# Altium footprint library PCB11.PcbLib: 17 footprints (part 1 of 2)
Each footprint in its own frame and in the unit in brackets; x right, y up, seen from the top. Pads: shape width x height; smd on the part's side, far side on the other; paste and mask are expansions set on the pad; w line width, h text height; cw(c..) or ccw(c..) is an arc to the next point about the centre after c.
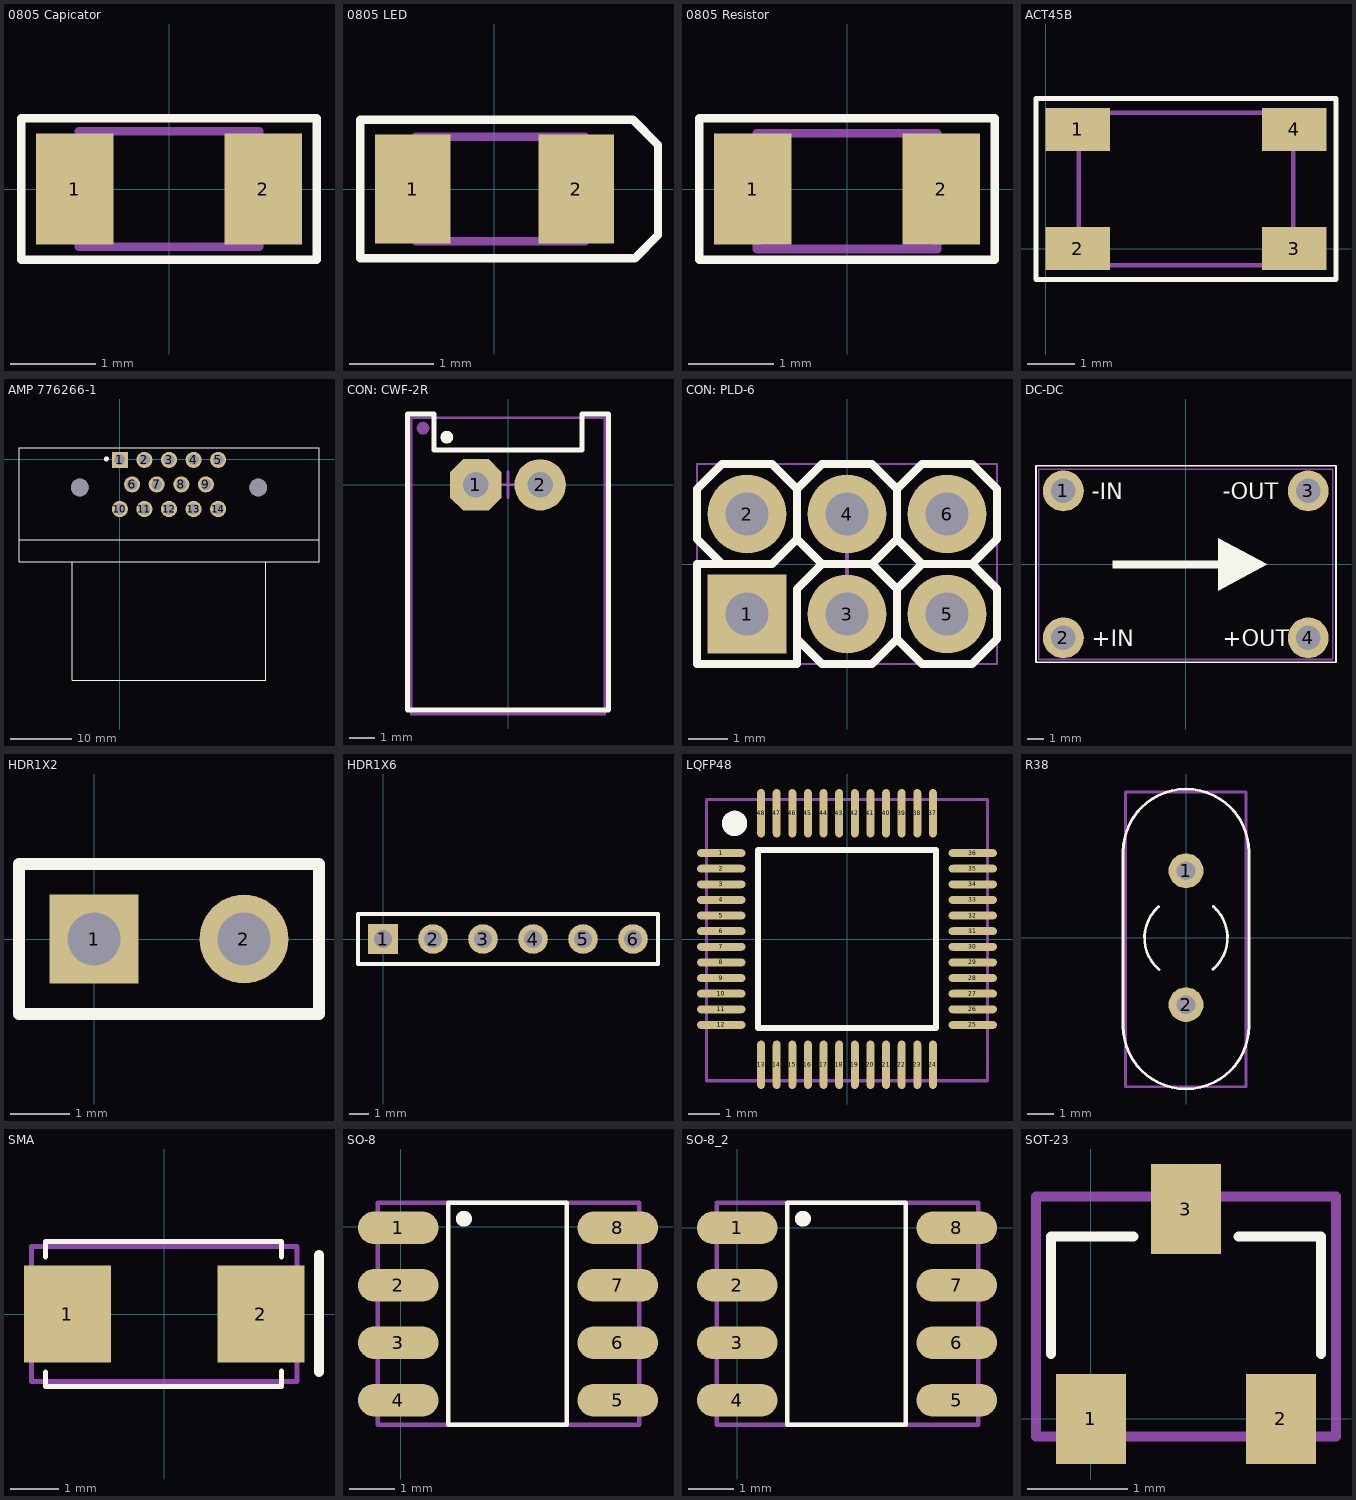
[diagram p0: the footprints below, top view; thin cyan lines are the x and y axes]

## 0805 Capicator [mm]
pads (2):
  rect 0.9x1.3 smd: 1(-1.1,0) 2(1.1,0)
Top Overlay:
  lines w0.1: -1.725,-0.825 -1.725,0.825 1.725,0.825 1.725,-0.825 -1.725,-0.825
Mechanical 13:
  lines w0.1: -1.05,-0.675 -1.05,0.675 1.05,0.675 1.05,-0.675 -1.05,-0.675
3D body: height 0.75, standoff 0, extent -1.05,-0.675 1.05,0.675

## 0805 LED [mm]
pads (2):
  rect 0.9x1.3 smd: 1(-0.975,0) 2(0.975,0)
Top Overlay:
  lines w0.1: -1.6,-0.825 -1.6,0.825 1.65,0.825 1.95,0.525 1.95,-0.55 1.675,-0.825 -1.6,-0.825
Mechanical 13:
  lines w0.1: -0.935,-0.625 1.085,-0.625 1.085,0.625 -0.935,0.625 -0.935,-0.625
3D body "LED0805.step": height 1.1, standoff 0, extent -0.935,-0.625 1.085,0.625

## 0805 Resistor [mm]
pads (2):
  rect 0.9x1.3 smd: 1(-1.1,0) 2(1.1,0)
Top Overlay:
  lines w0.1: -1.725,-0.825 -1.725,0.825 1.725,0.825 1.725,-0.825 -1.725,-0.825
Mechanical 13:
  lines w0.1: -1.05,-0.7 1.05,-0.7 1.05,0.65 -1.05,0.65 -1.05,-0.7
3D body: height 0.6, standoff 0, extent -1.05,-0.7 1.05,0.65

## ACT45B [mm]
pads (4):
  rect 1.35x0.9 smd: 1(0.675,2.5) 2(0.675,0) 3(5.225,0) 4(5.225,2.5)
Top Overlay:
  lines w0.1: -0.2,-0.65 5.7,-0.65 6.1,-0.65 6.1,2.8 6.1,3.15 -0.2,3.15 -0.2,-0.65
Mechanical 13:
  lines w0.1: 0.7,-0.35 5.2,-0.35 5.2,2.85 0.7,2.85 0.7,-0.35
3D body "ACT45B_GERMANY.STEP": height 3, standoff 0, extent 0.7,-0.35 5.2,2.85

## AMP 776266-1 [mm]
pads (16):
  rect 2.625x2.625 hole 1.75: 1(-0.019,-0.061)
  round 2.625 hole 1.75: 2(3.981,-0.061) 3(7.981,-0.061) 4(11.981,-0.061) 5(15.981,-0.061) 6(1.981,-4.061) 7(5.981,-4.061) 8(9.981,-4.061) 9(13.981,-4.061) 10(-0.019,-8.061) 11(3.981,-8.061) 12(7.981,-8.061) 13(11.981,-8.061) 14(15.981,-8.061)
  round 2.85 hole 2.85 unplated: None(-6.519,-4.561) None(22.481,-4.561)
Top Overlay:
  circle w0.4: c-2.2,0.1 r0.2
  lines w0.1: -16.419,-13.061 32.381,-13.061 ; -16.419,-13.061 -16.419,1.9 32.381,1.9 32.381,-13.061 ; -16.419,-13.061 -16.419,-16.611 -7.719,-16.611 ; -7.719,-16.611 23.681,-16.611 ; -7.719,-16.611 -7.719,-35.911 23.681,-35.911 23.681,-16.611 ; 23.681,-16.611 32.381,-16.611 32.381,-13.061
3D body "AMP 776266-1.stp": height 29.05, standoff -3.05, extent -16.4,-35.9 32.4,1.9

## CON: CWF-2R [mm]
height 7.7
pads (4):
  oct 2x2 hole 1: 1(-1.25,0)
  round 2 hole 1: 2(1.25,0)
  round 0.5 on Mech1: ""(-3.3,2.2)
  round 0.5 on Top Overlay: ""(-2.375,1.85)
Top Overlay:
  lines w0.2: -3.9,-8.75 -3.9,2.75 -2.875,2.75 -2.875,1.35 2.875,1.35 2.875,2.75 3.9,2.75 3.9,-8.75 -3.9,-8.75
Mechanical 1:
  lines w0.1: -3.75,-8.9 3.75,-8.9 3.75,2.6 -3.75,2.6 -3.75,-8.9
Mechanical 15:
  lines w0.1: -0.5,0 0.5,0 ; 0,-0.5 0,0.5 ; -3.9,-8.75 3.9,-8.75 3.9,2.75 2.875,2.75 2.875,1.35 -2.875,1.35 -2.875,2.75 -3.9,2.75 -3.9,-8.75
3D body "User Library-DS1069-2 CWF-2R.STEP": height 5.75, standoff -3.5, extent -3.75,-8.9 3.75,2.6

## CON: PLD-6 [mm]
height 10
pads (6):
  rect 2x2 hole 1.1: 1(-2.54,-1.27)
  round 2 hole 1.1: 2(-2.54,1.27) 3(0,-1.27) 4(0,1.27) 5(2.54,-1.27) 6(2.54,1.27)
Top Overlay:
  lines w0.2: -3.175,0 -3.81,0.635 -3.81,1.905 -3.175,2.54 ; -1.27,-1.905 -0.635,-2.54 0.635,-2.54 1.27,-1.905 ; -3.175,2.54 -1.905,2.54 ; -3.175,2.54 -1.905,2.54 ; -3.175,2.54 -1.905,2.54 ; -1.905,2.54 -1.27,1.905 ; -1.27,0.635 -0.635,0 ; -1.27,0.635 -1.905,0 -3.81,0 -3.81,-2.54 -1.27,-2.54 -1.27,-0.635 -0.635,0 ; -1.27,0.635 -1.27,1.905 ; -1.27,1.905 -0.635,2.54 ; -0.635,0 0.635,0 ; -0.635,2.54 0.635,2.54 ; -0.635,2.54 0.635,2.54 ; 0.635,0 1.27,-0.635 ; 0.635,0 1.27,0.635 ; 0.635,2.54 1.27,1.905 ; 1.27,-1.905 1.27,-0.635 ; 1.27,-1.905 1.905,-2.54 3.175,-2.54 3.81,-1.905 3.81,-0.635 3.175,0 ; 1.27,-0.635 1.905,0 ; 1.27,0.635 1.905,0 ; 1.27,0.635 1.27,1.905 ; 1.27,1.905 1.905,2.54 ; 1.905,0 3.175,0 ; 1.905,2.54 3.175,2.54 ; 1.905,2.54 3.175,2.54 ; 3.175,0 3.81,0.635 3.81,1.905 3.175,2.54
Mechanical 1:
  lines w0.1: -3.175,0 -3.81,0.635 -3.81,1.905 -3.175,2.54 -1.905,2.54 -1.27,1.905 -0.635,2.54 0.635,2.54 1.27,1.905 ; -1.27,-1.905 -0.635,-2.54 0.635,-2.54 1.27,-1.905 ; -0.635,0 -1.27,-0.635 -1.27,-2.54 -3.81,-2.54 -3.81,0 -1.905,0 -1.27,0.635 -0.635,0 ; -0.635,0 0.635,0 ; 0.635,0 1.27,-0.635 ; 0.635,0 1.27,0.635 ; 1.27,-1.905 1.27,-0.635 ; 1.27,-1.905 1.905,-2.54 3.175,-2.54 3.81,-1.905 3.81,-0.635 3.175,0 ; 1.27,-0.635 1.905,0 ; 1.27,0.635 1.27,1.905 ; 1.27,0.635 1.905,0 ; 1.27,1.905 1.905,2.54 3.175,2.54 3.81,1.905 3.81,0.635 3.175,0 ; 1.905,0 3.175,0
Mechanical 15:
  lines w0.05: -3.81,-2.54 -3.81,2.54 3.81,2.54 3.81,-2.54 -3.81,-2.54
  lines w0.1: -0.5,0 0.5,0 ; 0,-0.5 0,0.5
3D body "PLD-6.STEP": height 8.54, standoff -3, extent -3.81,-2.54 3.81,2.54

## DC-DC [mm]
pads (4):
  round 2.5 / inner round 0 / far side round 2.5 hole 1.5: 1(-7.5,4.5) 2(-7.5,-4.5) 3(7.5,4.5) 4(7.5,-4.5)
Top Overlay:
  rectangle: -4.5,-0.25 2,0.25
  region: 2,-1.6 5,0 2,1.6
  lines w0.1: -9.175,-6 9.2,-6 9.2,6.05 -9.175,6.05 -9.175,0.925 -9.175,-6
  text "-OUT" at 2.25,4 h1
  text "+OUT" at 2.25,-5 h1
  text "+IN" at -5.75,-5 h1
  text "-IN" at -5.75,4 h1
Mechanical 13:
  lines w0.1: -9,-5.825 -9,5.825 9,5.825 9,-5.825 -9,-5.825
3D body "dsn-mini-360.step": height 7.3, standoff -4.73, extent -9,-5.825 9,5.825

## HDR1X2 [mm] "Connector; Header; 2 Position"
pads (2):
  rect 1.5x1.5 hole 0.9: 1(0,0)
  round 1.5 hole 0.9: 2(2.54,0)
Top Overlay:
  lines w0.2: -1.27,-1.27 3.81,-1.27 3.81,1.27 -1.27,1.27 -1.27,-1.27

## HDR1X6 [mm] "Connector; Header; 6 Position"
pads (6):
  rect 1.5x1.5 hole 0.9: 1(0,0)
  round 1.5 hole 0.9: 2(2.54,0) 3(5.08,0) 4(7.62,0) 5(10.16,0) 6(12.7,0)
Top Overlay:
  lines w0.2: -1.27,-1.27 -1.27,1.27 13.97,1.27 13.97,-1.27 -1.27,-1.27

## LQFP48 [mm]
pads (48):
  oval 1.55x0.254 smd mask+0.04: 1(-4.025,2.75) 2(-4.025,2.25) 3(-4.025,1.75) 4(-4.025,1.25) 5(-4.025,0.75) 6(-4.025,0.25) 7(-4.025,-0.25) 8(-4.025,-0.75) 9(-4.025,-1.25) 10(-4.025,-1.75) 11(-4.025,-2.25) 12(-4.025,-2.75) 25(4.025,-2.75) 26(4.025,-2.25) 27(4.025,-1.75) 28(4.025,-1.25) 29(4.025,-0.75) 30(4.025,-0.25) 31(4.025,0.25) 32(4.025,0.75) 33(4.025,1.25) 34(4.025,1.75) 35(4.025,2.25) 36(4.025,2.75)
  oval 0.254x1.55 smd mask+0.04: 13(-2.75,-4.025) 14(-2.25,-4.025) 15(-1.75,-4.025) 16(-1.25,-4.025) 17(-0.75,-4.025) 18(-0.25,-4.025) 19(0.25,-4.025) 20(0.75,-4.025) 21(1.25,-4.025) 22(1.75,-4.025) 23(2.25,-4.025) 24(2.75,-4.025) 37(2.75,4.025) 38(2.25,4.025) 39(1.75,4.025) 40(1.25,4.025) 41(0.75,4.025) 42(0.25,4.025) 43(-0.25,4.025) 44(-0.75,4.025) 45(-1.25,4.025) 46(-1.75,4.025) 47(-2.25,4.025) 48(-2.75,4.025)
Top Overlay:
  circle w0.41: c-3.6,3.7 r0.2
  lines w0.2: -2.85,-2.85 -2.85,2.85 2.85,2.85 2.85,-2.85 -2.85,-2.85
Mechanical 13:
  lines w0.1: -4.5,-4.536 -4.5,4.464 4.5,4.464 4.5,-4.536 -4.5,-4.536
3D body "User Library-Quad50M48.step": height 1.56, standoff 0, extent -4.5,-4.536 4.5,4.464

## R38 [mm] "Crystal"
pads (2):
  round 1.3 hole 0.7: 1(0,2.5) 2(0,-2.5)
Top Overlay:
  lines w0.1: -1.022,1.155 ccw(c0,-0.01) -1.006,-1.189 ; 1.006,-1.179 ccw(c0,0) 1.022,1.165 ; -2.35,-3.3 ccw(c0,-3.3) 2.35,-3.3 2.35,3.2 ccw(c0,3.2) -2.35,3.2 -2.35,-3.3
Mechanical 13:
  lines w0.1: -2.258,-5.561 2.242,-5.561 2.242,5.439 -2.258,5.439 -2.258,-5.561
3D body "Cristal 16MHz.STEP": height 4, standoff -1.5, extent -2.258,-5.561 2.242,5.439

## SMA [mm]
pads (2):
  rect 1.8x2 smd: 1(-2,0) 2(2,0)
Top Overlay:
  lines w0.1: -2.45,-1.2 -2.45,-1.5 2.425,-1.5 2.425,-1.175 ; -2.45,1.175 -2.45,1.5 2.425,1.5 2.425,1.175
  lines w0.2: 3.2,-1.2 3.2,1.225
Mechanical 13:
  lines w0.1: -2.743,-1.397 2.743,-1.397 2.743,1.397 -2.743,1.397 -2.743,-1.397
3D body "SMA Diode.step": height 2.29, standoff 0.01, extent -2.743,-1.397 2.743,1.397

## SO-8 [mm]
pads (8):
  oval 1.78x0.72 smd: 1(-0.059,-0.02) 2(-0.059,-1.29) 3(-0.059,-2.56) 4(-0.059,-3.83) 5(4.791,-3.83) 6(4.791,-2.56) 7(4.791,-1.29) 8(4.791,-0.02)
Top Overlay:
  circle w0.25: c1.391,0.18 r0.05
  lines w0.1: 1.041,-4.37 3.666,-4.37 3.666,0.53 1.041,0.53 1.041,-4.37
Mechanical 13:
  lines w0.1: -0.509,-4.37 5.266,-4.37 5.266,0.53 -0.509,0.53 -0.509,-4.37
3D body: height 1.45, standoff 0, extent -0.511,-4.37 5.268,0.532

## SO-8_2 [mm]
pads (8):
  oval 1.78x0.72 smd: 1(0,0) 2(0,-1.27) 3(0,-2.54) 4(0,-3.81) 5(4.85,-3.81) 6(4.85,-2.54) 7(4.85,-1.27) 8(4.85,0)
Top Overlay:
  circle w0.25: c1.45,0.2 r0.05
  lines w0.1: 1.1,-4.35 3.725,-4.35 3.725,0.55 1.1,0.55 1.1,-4.35
Mechanical 13:
  lines w0.1: -0.45,-4.35 5.325,-4.35 5.325,0.55 -0.45,0.55 -0.45,-4.35
3D body: height 1.45, standoff 0, extent -0.452,-4.35 5.327,0.552

## SOT-23 [mm]
pads (3):
  rect 0.7x0.9 smd: 1(0,0) 2(1.9,0) 3(0.95,2.1)
Top Overlay:
  lines w0.1: -0.4,0.65 -0.4,1.825 0.425,1.825 ; 1.475,1.825 2.3,1.825 2.3,0.65
Mechanical 13:
  lines w0.1: -0.55,-0.175 2.45,-0.175 2.45,2.225 -0.55,2.225 -0.55,-0.175
3D body "sot23 v2.step": height 1.1, standoff 0, extent -0.55,-0.175 2.45,2.225